# EAGLE library part FOLIENSTECKVERBINDER18POL (library Foliensteckverbinder - SMD 18POL)
Name des Bauteiles:SMD-Foliensteckverbind. 18pol. Daten:ZIF, RM 0,5, stehend; W&P: 5580-18-TR; Würth: 687 318 124 422 Artikelnummer:#135218 Datenblatt:
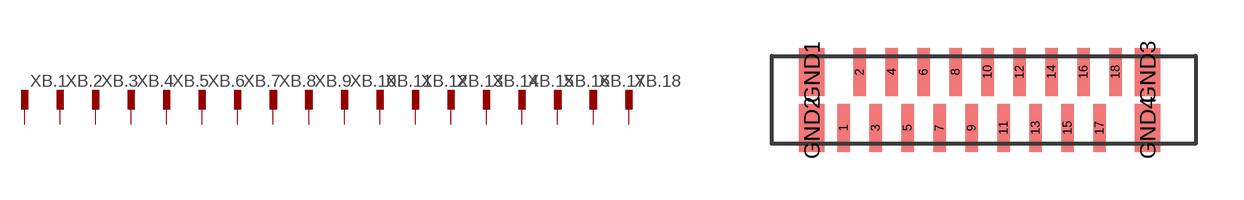
[diagram p0: symbol with the pads of FV18POL; footprint FV18POL]

Designator prefix XB; gates .1=1 .2=1 .3=1 .4=1 .5=1 .6=1 .7=1 .8=1 .9=1 .10=1 .11=1 .12=1 .13=1 .14=1 .15=1 .16=1 .17=1 .18=1

## FOLIENSTECKVERBINDER18POLSMD  [FV18POL]
1  .1:1
2  .2:1
3  .3:1
4  .4:1
5  .5:1
6  .6:1
7  .7:1
8  .8:1
9  .9:1
10  .10:1
11  .11:1
12  .12:1
13  .13:1
14  .14:1
15  .15:1
16  .16:1
17  .17:1
18  .18:1

## Footprint FV18POL (pad centres in mm)
smd 0.4 x 1.5: 1 -3.81,-1.27; 2 -3.31,0.48; 3 -2.81,-1.27; 4 -2.31,0.48; 5 -1.81,-1.27; 6 -1.31,0.48; 7 -0.81,-1.27; 8 -0.31,0.48; 9 0.19,-1.27; 10 0.69,0.48; 11 1.19,-1.27; 12 1.69,0.48; 13 2.19,-1.27; 14 2.69,0.48; 15 3.19,-1.27; 16 3.69,0.48; 17 4.19,-1.27; 18 4.69,0.48
smd 0.8 x 1.5: GND1 -4.81,0.48; GND2 -4.81,-1.27; GND3 5.69,0.48; GND4 5.69,-1.27